# Altium schematic symbol library 687 1xx 183 622.SchLib: 16 symbols
Pins are listed as number, name and electrical type; pins without a type are passive.

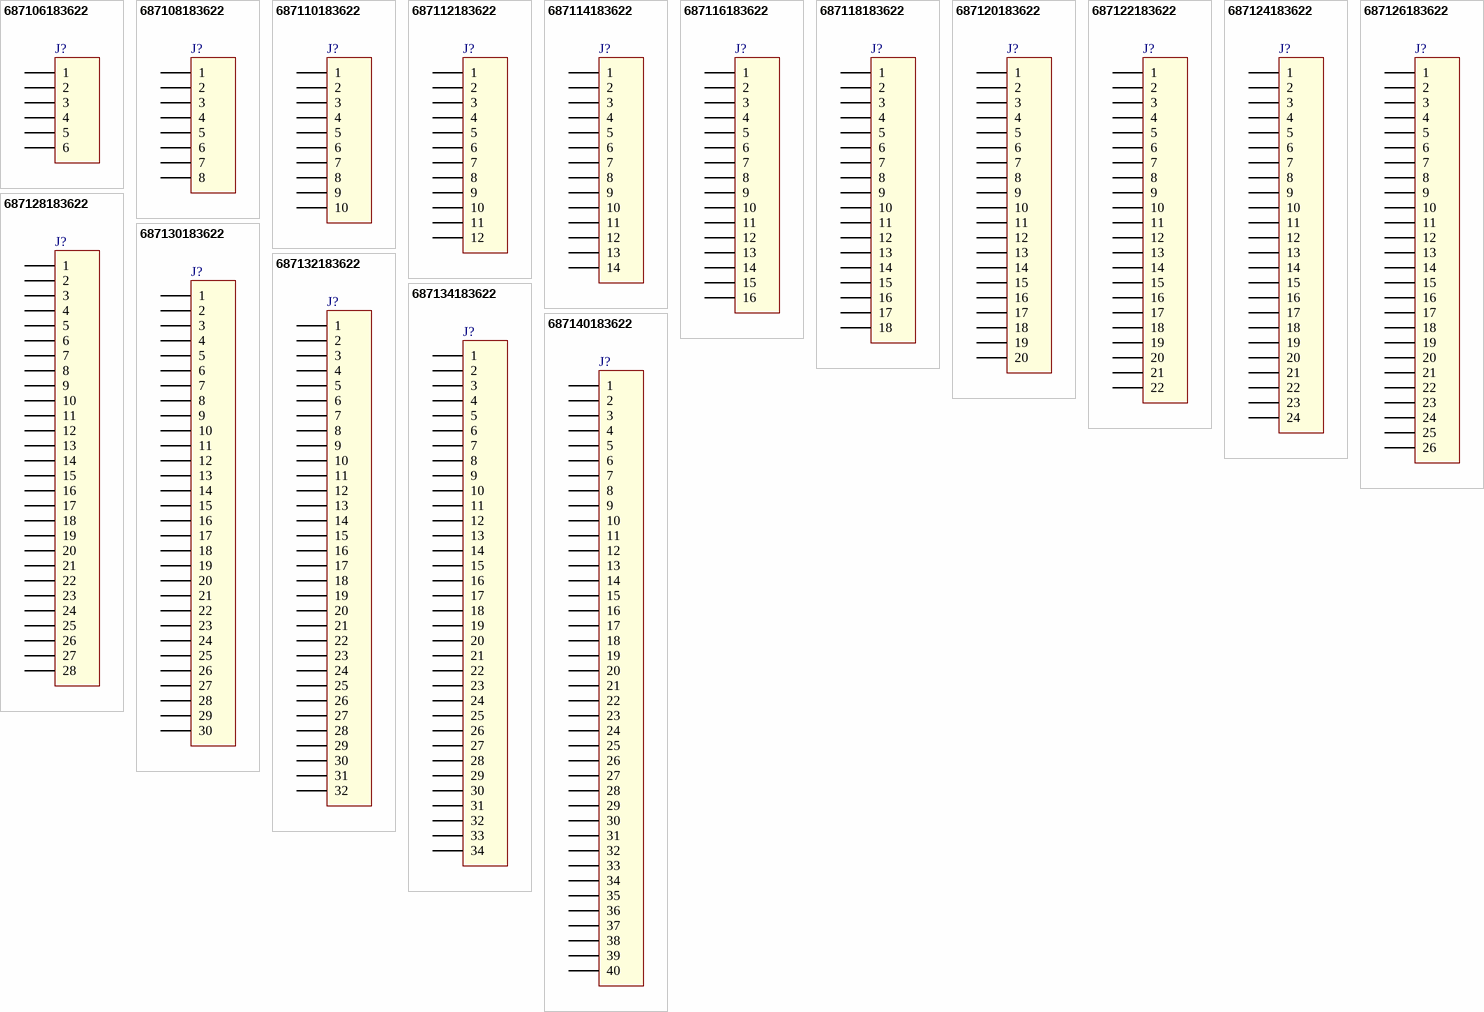
[diagram p0: symbols 687106183622 to 687140183622]

## 687106183622
designator J?
0.50 mm SMT Horizontal Top Contact - Low Profile WR-FPC, 6 pins; Part Number: 687106183622; Pitch: 0.5 mm; Pin Number: 6; ComponentLink1Description: Manufacturer; ComponentLink1URL: http://www.we-online.de; ComponentLink2Description: Datasheet; ComponentLink2URL: http://katalog.we-online.com/em/datasheet/687106183622.pdf; Published Date: April 2017; Publisher: Wurth Elektronik
footprint 687106183622 (0.50 mm SMT Horizontal Top Contact - Low Profile, 6p)
pins: 1, 2, 3, 4, 5, 6

## 687108183622
designator J?
0.50 mm SMT Horizontal Top Contact - Low Profile WR-FPC, 8 pins; Part Number: 687108183622; Pitch: 0.5 mm; Pin Number: 8; ComponentLink1Description: Manufacturer; ComponentLink1URL: http://www.we-online.de; ComponentLink2Description: Datasheet; ComponentLink2URL: http://katalog.we-online.com/em/datasheet/687108183622.pdf; Published Date: April 2017; Publisher: Wurth Elektronik
footprint 687108183622 (0.50 mm SMT Horizontal Top Contact - Low Profile, 8p)
pins: 1, 2, 3, 4, 5, 6, 7, 8

## 687110183622
designator J?
0.50 mm SMT Horizontal Top Contact - Low Profile WR-FPC, 10 pins; Part Number: 687110183622; Pitch: 0.5 mm; Pin Number: 10; ComponentLink1Description: Manufacturer; ComponentLink1URL: http://www.we-online.de; ComponentLink2Description: Datasheet; ComponentLink2URL: http://katalog.we-online.com/em/datasheet/687110183622.pdf; Published Date: April 2017; Publisher: Wurth Elektronik
footprint 687110183622 (0.50 mm SMT Horizontal Top Contact - Low Profile, 10p)
pins: 1, 2, 3, 4, 5, 6, 7, 8, 9, 10

## 687112183622
designator J?
0.50 mm SMT Horizontal Top Contact - Low Profile WR-FPC, 12 pins; Part Number: 687112183622; Pitch: 0.5 mm; Pin Number: 12; ComponentLink1Description: Manufacturer; ComponentLink1URL: http://www.we-online.de; ComponentLink2Description: Datasheet; ComponentLink2URL: http://katalog.we-online.com/em/datasheet/687112183622.pdf; Published Date: April 2017; Publisher: Wurth Elektronik
footprint 687112183622 (0.50 mm SMT Horizontal Top Contact - Low Profile, 12p)
pins: 1, 2, 3, 4, 5, 6, 7, 8, 9, 10, 11, 12

## 687114183622
designator J?
0.50 mm SMT Horizontal Top Contact - Low Profile WR-FPC, 14 pins; Part Number: 687114183622; Pitch: 0.5 mm; Pin Number: 14; ComponentLink1Description: Manufacturer; ComponentLink1URL: http://www.we-online.de; ComponentLink2Description: Datasheet; ComponentLink2URL: http://katalog.we-online.com/em/datasheet/687114183622.pdf; Published Date: April 2017; Publisher: Wurth Elektronik
footprint 687114183622 (0.50 mm SMT Horizontal Top Contact - Low Profile, 14p)
pins: 1, 2, 3, 4, 5, 6, 7, 8, 9, 10, 11, 12, 13, 14

## 687116183622
designator J?
0.50 mm SMT Horizontal Top Contact - Low Profile WR-FPC, 16 pins; Part Number: 687116183622; Pitch: 0.5 mm; Pin Number: 16; ComponentLink1Description: Manufacturer; ComponentLink1URL: http://www.we-online.de; ComponentLink2Description: Datasheet; ComponentLink2URL: http://katalog.we-online.com/em/datasheet/687116183622.pdf; Published Date: April 2017; Publisher: Wurth Elektronik
footprint 687116183622 (0.50 mm SMT Horizontal Top Contact - Low Profile, 16p)
pins: 1, 2, 3, 4, 5, 6, 7, 8, 9, 10, 11, 12, 13, 14, 15, 16

## 687118183622
designator J?
0.50 mm SMT Horizontal Top Contact - Low Profile WR-FPC, 18 pins; Part Number: 687118183622; Pitch: 0.5 mm; Pin Number: 18; ComponentLink1Description: Manufacturer; ComponentLink1URL: http://www.we-online.de; ComponentLink2Description: Datasheet; ComponentLink2URL: http://katalog.we-online.com/em/datasheet/687118183622.pdf; Published Date: April 2017; Publisher: Wurth Elektronik
footprint 687118183622 (0.50 mm SMT Horizontal Top Contact - Low Profile, 18p)
pins: 1, 2, 3, 4, 5, 6, 7, 8, 9, 10, 11, 12, 13, 14, 15, 16, 17, 18

## 687120183622
designator J?
0.50 mm SMT Horizontal Top Contact - Low Profile WR-FPC, 20 pins; Part Number: 687120183622; Pitch: 0.5 mm; Pin Number: 20; ComponentLink1Description: Manufacturer; ComponentLink1URL: http://www.we-online.de; ComponentLink2Description: Datasheet; ComponentLink2URL: http://katalog.we-online.com/em/datasheet/687120183622.pdf; Published Date: April 2017; Publisher: Wurth Elektronik
footprint 687120183622 (0.50 mm SMT Horizontal Top Contact - Low Profile, 20p)
pins: 1, 2, 3, 4, 5, 6, 7, 8, 9, 10, 11, 12, 13, 14, 15, 16, 17, 18, 19, 20

## 687122183622
designator J?
0.50 mm SMT Horizontal Top Contact - Low Profile WR-FPC, 22 pins; Part Number: 687122183622; Pitch: 0.5 mm; Pin Number: 22; ComponentLink1Description: Manufacturer; ComponentLink1URL: http://www.we-online.de; ComponentLink2Description: Datasheet; ComponentLink2URL: http://katalog.we-online.com/em/datasheet/687122183622.pdf; Published Date: April 2017; Publisher: Wurth Elektronik
footprint 687122183622 (0.50 mm SMT Horizontal Top Contact - Low Profile, 22p)
pins: 1, 2, 3, 4, 5, 6, 7, 8, 9, 10, 11, 12, 13, 14, 15, 16, 17, 18, 19, 20, 21, 22

## 687124183622
designator J?
0.50 mm SMT Horizontal Top Contact - Low Profile WR-FPC, 24 pins; Part Number: 687124183622; Pitch: 0.5 mm; Pin Number: 24; ComponentLink1Description: Manufacturer; ComponentLink1URL: http://www.we-online.de; ComponentLink2Description: Datasheet; ComponentLink2URL: http://katalog.we-online.com/em/datasheet/687124183622.pdf; Published Date: April 2017; Publisher: Wurth Elektronik
footprint 687124183622 (0.50 mm SMT Horizontal Top Contact - Low Profile, 24p)
pins: 1, 2, 3, 4, 5, 6, 7, 8, 9, 10, 11, 12, 13, 14, 15, 16, 17, 18, 19, 20, 21, 22, 23, 24

## 687126183622
designator J?
0.50 mm SMT Horizontal Top Contact - Low Profile WR-FPC, 26 pins; Part Number: 687126183622; Pitch: 0.5 mm; Pin Number: 26; ComponentLink1Description: Manufacturer; ComponentLink1URL: http://www.we-online.de; ComponentLink2Description: Datasheet; ComponentLink2URL: http://katalog.we-online.com/em/datasheet/687126183622.pdf; Published Date: April 2017; Publisher: Wurth Elektronik
footprint 687126183622 (0.50 mm SMT Horizontal Top Contact - Low Profile, 26p)
pins: 1, 2, 3, 4, 5, 6, 7, 8, 9, 10, 11, 12, 13, 14, 15, 16, 17, 18, 19, 20, 21, 22, 23, 24, 25, 26

## 687128183622
designator J?
0.50 mm SMT Horizontal Top Contact - Low Profile WR-FPC, 28 pins; Part Number: 687128183622; Pitch: 0.5 mm; Pin Number: 28; ComponentLink1Description: Manufacturer; ComponentLink1URL: http://www.we-online.de; ComponentLink2Description: Datasheet; ComponentLink2URL: http://katalog.we-online.com/em/datasheet/687128183622.pdf; Published Date: April 2017; Publisher: Wurth Elektronik
footprint 687128183622 (0.50 mm SMT Horizontal Top Contact - Low Profile, 28p)
pins: 1, 2, 3, 4, 5, 6, 7, 8, 9, 10, 11, 12, 13, 14, 15, 16, 17, 18, 19, 20, 21, 22, 23, 24, 25, 26, 27, 28

## 687130183622
designator J?
0.50 mm SMT Horizontal Top Contact - Low Profile WR-FPC, 30 pins; Part Number: 687130183622; Pitch: 0.5 mm; Pin Number: 30; ComponentLink1Description: Manufacturer; ComponentLink1URL: http://www.we-online.de; ComponentLink2Description: Datasheet; ComponentLink2URL: http://katalog.we-online.com/em/datasheet/687130183622.pdf; Published Date: April 2017; Publisher: Wurth Elektronik
footprint 687130183622 (0.50 mm SMT Horizontal Top Contact - Low Profile, 30p)
pins: 1, 2, 3, 4, 5, 6, 7, 8, 9, 10, 11, 12, 13, 14, 15, 16, 17, 18, 19, 20, 21, 22, 23, 24, 25, 26, 27, 28, 29, 30

## 687132183622
designator J?
0.50 mm SMT Horizontal Top Contact - Low Profile WR-FPC, 32 pins; Part Number: 687132183622; Pitch: 0.5 mm; Pin Number: 32; ComponentLink1Description: Manufacturer; ComponentLink1URL: http://www.we-online.de; ComponentLink2Description: Datasheet; ComponentLink2URL: http://katalog.we-online.com/em/datasheet/687132183622.pdf; Published Date: April 2017; Publisher: Wurth Elektronik
footprint 687132183622 (0.50 mm SMT Horizontal Top Contact - Low Profile, 32p)
pins: 1, 2, 3, 4, 5, 6, 7, 8, 9, 10, 11, 12, 13, 14, 15, 16, 17, 18, 19, 20, 21, 22, 23, 24, 25, 26, 27, 28, 29, 30, 31, 32

## 687134183622
designator J?
0.50 mm SMT Horizontal Top Contact - Low Profile WR-FPC, 34 pins; Part Number: 687134183622; Pitch: 0.5 mm; Pin Number: 34; ComponentLink1Description: Manufacturer; ComponentLink1URL: http://www.we-online.de; ComponentLink2Description: Datasheet; ComponentLink2URL: http://katalog.we-online.com/em/datasheet/687134183622.pdf; Published Date: April 2017; Publisher: Wurth Elektronik
footprint 687134183622 (0.50 mm SMT Horizontal Top Contact - Low Profile, 34p)
pins: 1, 2, 3, 4, 5, 6, 7, 8, 9, 10, 11, 12, 13, 14, 15, 16, 17, 18, 19, 20, 21, 22, 23, 24, 25, 26, 27, 28, 29, 30, 31, 32, 33, 34

## 687140183622
designator J?
0.50 mm SMT Horizontal Top Contact - Low Profile WR-FPC, 40 pins; Part Number: 687140183622; Pitch: 0.5 mm; Pin Number: 40; ComponentLink1Description: Manufacturer; ComponentLink1URL: http://www.we-online.de; ComponentLink2Description: Datasheet; ComponentLink2URL: http://katalog.we-online.com/em/datasheet/687140183622.pdf; Published Date: April 2017; Publisher: Wurth Elektronik
footprint 687140183622 (0.50 mm SMT Horizontal Top Contact - Low Profile, 40p)
pins: 1, 2, 3, 4, 5, 6, 7, 8, 9, 10, 11, 12, 13, 14, 15, 16, 17, 18, 19, 20, 21, 22, 23, 24, 25, 26, 27, 28, 29, 30, 31, 32, 33, 34, 35, 36, 37, 38, 39, 40